# Altium integrated library DWM1000.IntLib: 1 symbol
Pins are listed as number, name and electrical type; pins without a type are passive.

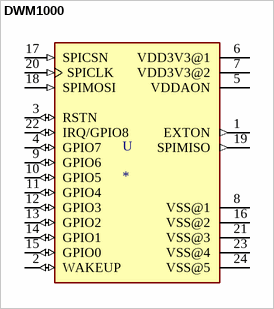
[diagram p0: symbol DWM1000]

## DWM1000
designator U
802.15.4 IR-UWB Transceiver Module 3.5GHz ~ 6.5GHz Integrated, Chip Surface Mount; MF: Decawave Limited; MP: DWM1000; Package: Module Decawave; Availability: Unavailable; Value: *; SnapEDA_Link: https://www.snapeda.com/parts/DWM1000/Decawave%20Limited/view-part/327593/?ref=snap; Price: None
footprint XCVR_DWM1000
pins: 1 EXTON (out), 2 WAKEUP (io), 3 RSTN (io), 4 GPIO7 (io), 5 VDDAON (power), 6 VDD3V3@1 (power), 7 VDD3V3@2 (power), 8 VSS@1 (power), 9 GPIO6 (io), 10 GPIO5 (io), 11 GPIO4 (io), 12 GPIO3 (io), 13 GPIO2 (io), 14 GPIO1 (io), 15 GPIO0 (io), 16 VSS@2 (power), 17 SPICSN (in), 18 SPIMOSI (in), 19 SPIMISO (out), 20 SPICLK (in), 21 VSS@3 (power), 22 IRQ/GPIO8 (io), 23 VSS@4 (power), 24 VSS@5 (power)